# Altium footprint library PCB - CAPACITOR - MLCC - MURATA GRM21B 0805_2012.PCBLIB: 1 footprints
Each footprint in its own frame and in the unit in brackets; x right, y up, seen from the top. Pads: shape width x height; smd on the part's side, far side on the other; paste and mask are expansions set on the pad; w line width, h text height; cw(c..) or ccw(c..) is an arc to the next point about the centre after c.
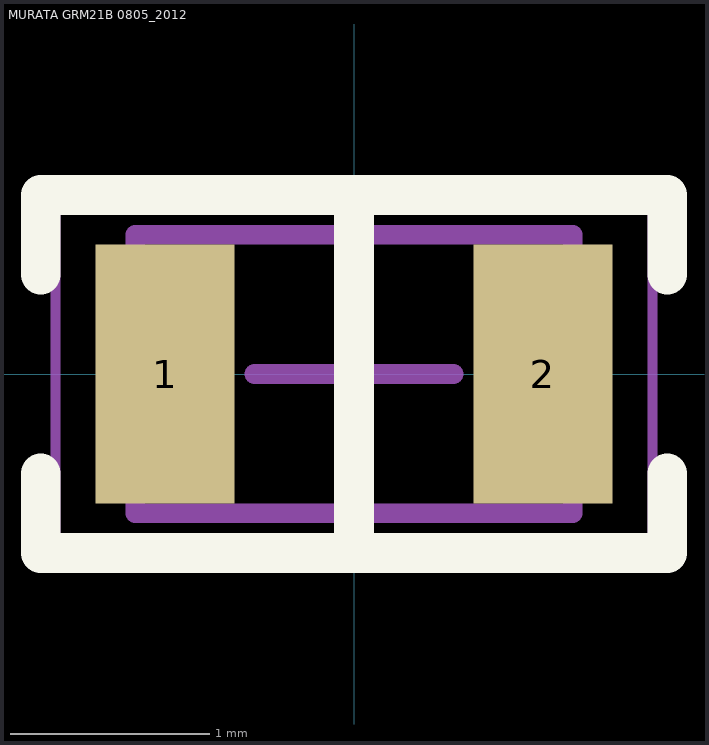
[diagram p0: the footprint, top view; thin cyan lines are the x and y axes]

## MURATA GRM21B 0805_2012 [mm] "Chip Capacitor, 2-Leads, Body 2.00x1.25mm"
height 1.25
pads (2):
  rect 0.7x1.3 smd: 1(-0.95,0) 2(0.95,0)
Top Overlay:
  lines w0.2: -1.575,-0.5 -1.575,-0.9 1.575,-0.9 1.575,-0.5 ; -1.575,0.5 -1.575,0.9 1.575,0.9 1.575,0.5 ; 0,-0.9 0,0.9
Mechanical 15:
  lines w0.1: -1.1,-0.7 1.1,-0.7 1.1,0.7 -1.1,0.7 -1.1,-0.7
Mechanical 29:
  lines w0.05: -1.5,-0.9 1.5,-0.9 1.5,0.9 -1.5,0.9 -1.5,-0.9
  lines w0.1: -0.5,0 0.5,0 ; 0,-0.5 0,0.5
  text "'.Designator'" at -0.075,0.092 h0.5
3D body "Murata - GRM21B.step": height 1.25, standoff 0, extent -1,-0.625 1,0.625